# EAGLE library part LM75-6PIN (library Temperature_Breakout)
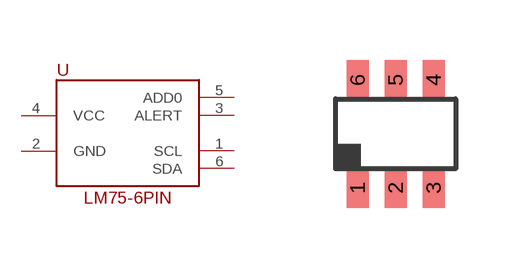
[diagram p1: symbol with the pads of SOT23-6; footprint SOT23-6]

Designator prefix -

## LM75-6PIN  [SOT23-6]
1  SCL
2  GND
3  ALERT
4  VCC
5  ADD0
6  SDA

## Footprint SOT23-6 (pad centres in mm)
smd 0.55 x 1: 1 -0.95,-1.35; 2 0,-1.35; 3 0.95,-1.35; 4 0.95,1.35; 5 0,1.35; 6 -0.95,1.35